# EAGLE library part EN5339QI (library ORBiT-IC-INTEL-POWER)
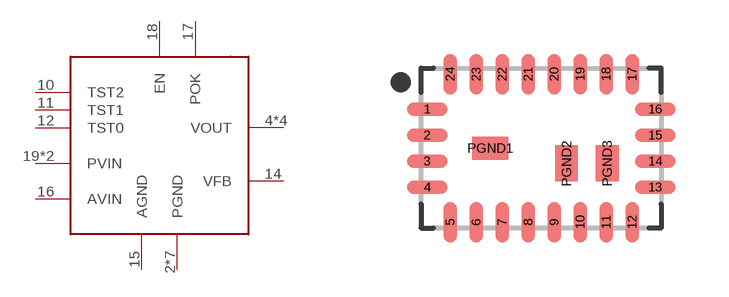
[diagram p1: symbol with the pads of QFN65P600X400X160-24; footprint QFN65P600X400X160-24]

Designator prefix -

## EN5339QI  [QFN65P600X400X160-24]
2  PGND  pwr
3  PGND  pwr
4  VOUT  pwr
5  VOUT  pwr
6  VOUT  pwr
7  VOUT  pwr
8  PGND  pwr
9  PGND  pwr
10  TST2  pwr
11  TST1  pwr
12  TST0  pwr
14  VFB  pwr
15  AGND  pwr
16  AVIN  pwr
17  POK  in
18  EN  in
19  PVIN  pwr
20  PVIN  pwr
PGND1  PGND  pwr
PGND2  PGND  pwr
PGND3  PGND  pwr

## Footprint QFN65P600X400X160-24 (pad centres in mm)
24-QFN, 0.65 mm pitch, 4.00 X 6.00 X 1.60 mm body 24-pin QFN package with 0.65 mm pitch with body size 4.00 X 6.00 X 1.60 mm
smd 1.012 x 0.332: 1 -2.85,0.975; 2 -2.85,0.325; 3 -2.85,-0.325; 4 -2.85,-0.975; 13 2.85,-0.975; 14 2.85,-0.325; 15 2.85,0.325; 16 2.85,0.975
smd 0.332 x 1.012: 5 -2.275,-1.85; 6 -1.625,-1.85; 7 -0.975,-1.85; 8 -0.325,-1.85; 9 0.325,-1.85; 10 0.975,-1.85; 11 1.625,-1.85; 12 2.275,-1.85; 17 2.275,1.85; 18 1.625,1.85; 19 0.975,1.85; 20 0.325,1.85; 21 -0.325,1.85; 22 -0.975,1.85; 23 -1.625,1.85; 24 -2.275,1.85
smd 0.9 x 0.57: PGND1 -1.27,0
smd 0.57 x 0.9: PGND2 0.635,-0.381; PGND3 1.651,-0.381